# Altium integrated library TI Data Converters Analog to Digital Converter.IntLib: 2198 symbols (part 34 of 164)
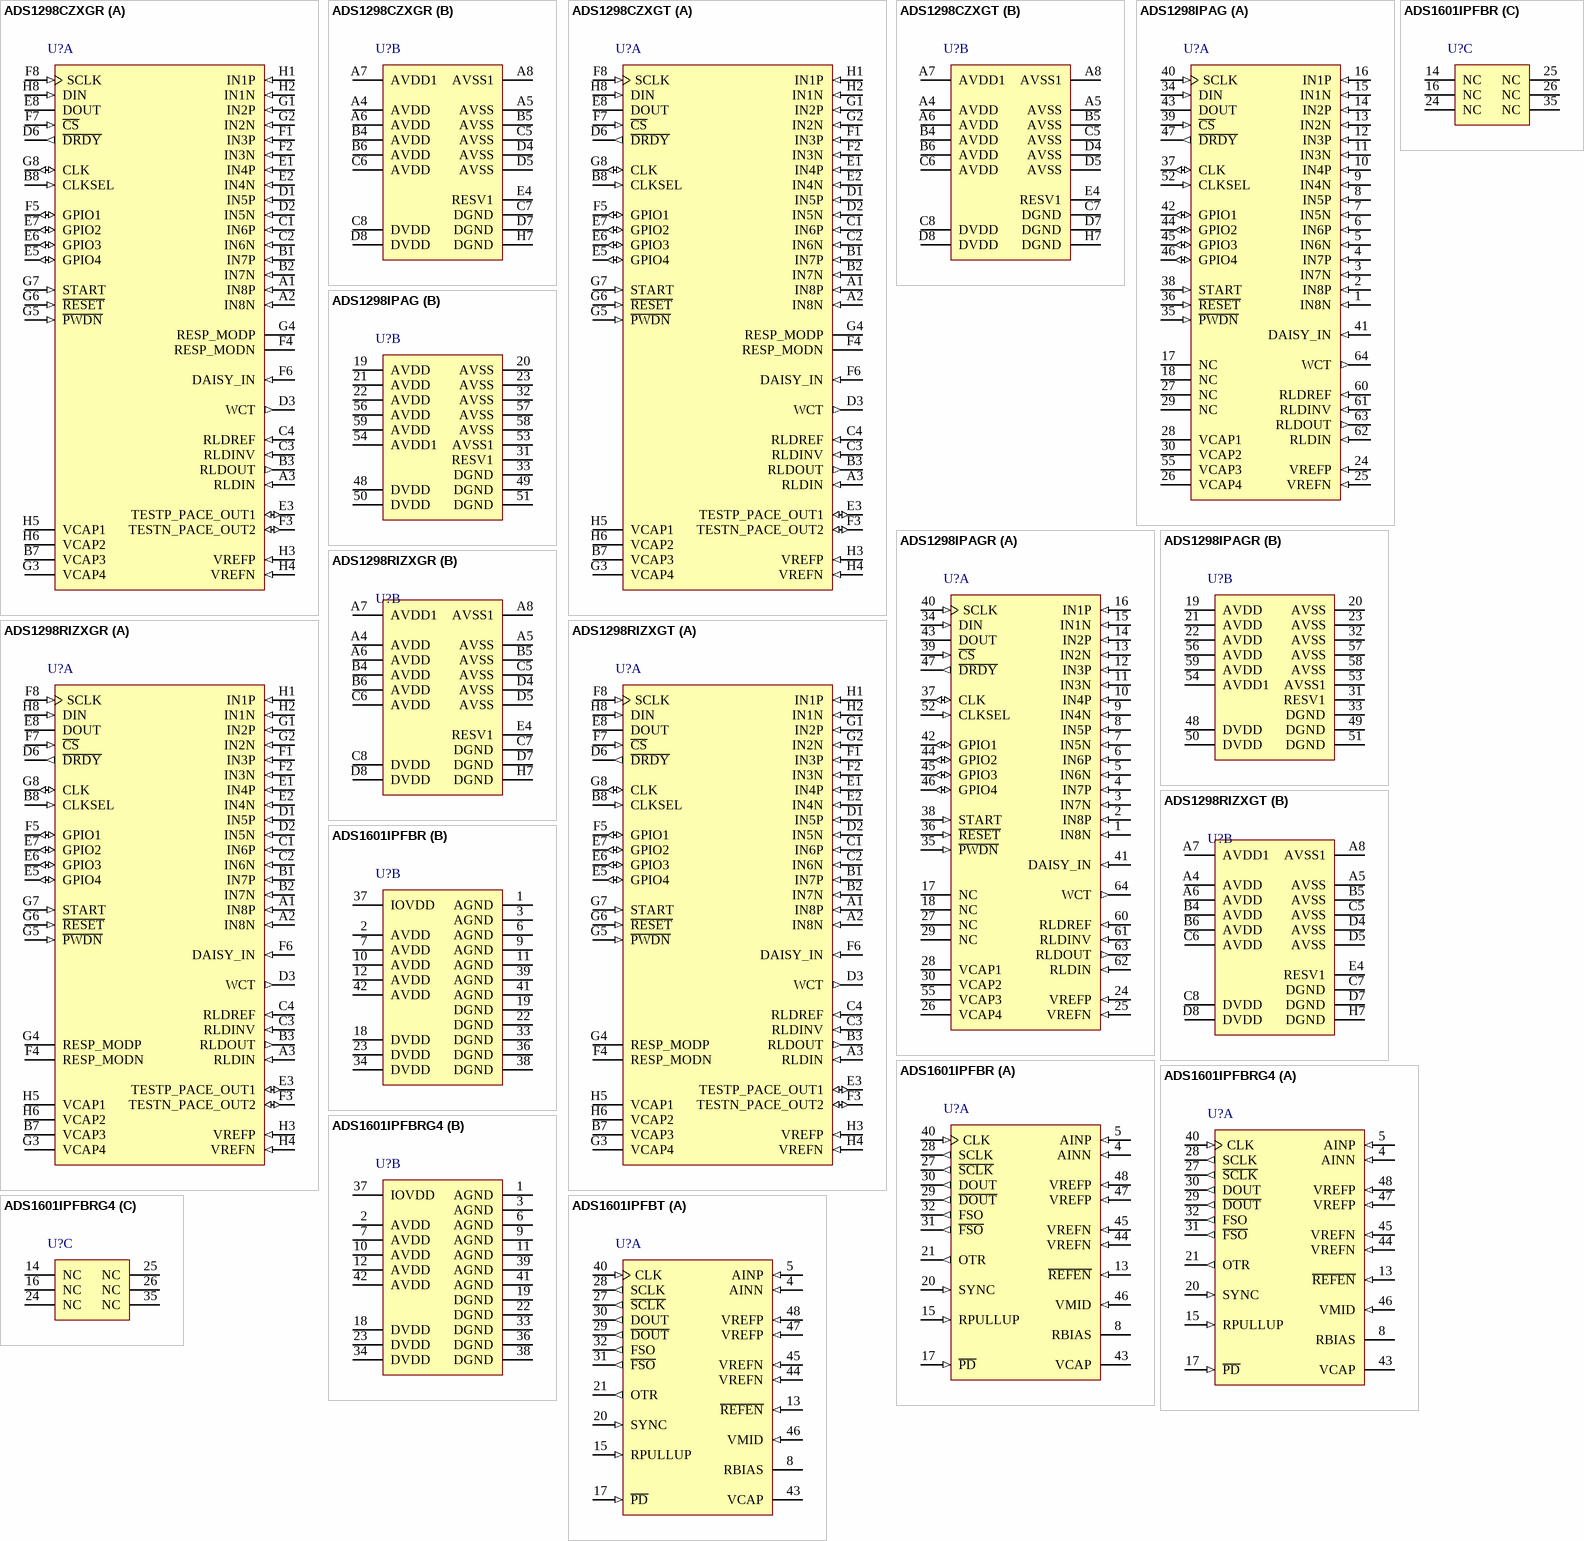
[diagram p159: symbols ADS1298CZXGR to ADS1601IPFBT]

## ADS1298RIZXGR
designator U?
8-Channel, 24-Bit ADC with Integrated Respiration Impedance and ECG Front End, -40 to 85 degC, 64-pin BGA (ZXG64), Green (RoHS & no Sb/Br); Manufacturer: Texas Instruments; PartNumber: ADS1298RIZXGR; # Input Channels: 8; Analog Voltage AV/DD(Max)(V): 5.25; Analog Voltage AV/DD(Min)(V): 2.7; Architecture: Delta-Sigma; Digital Supply(Max)(V): 3.6; Digital Supply(Min)(V): 1.65; Interface: Serial SPI; Resolution(Bits): 24; Sample Rate (max)(SPS): 32K; SNR(dB): 112; SubFamily: Precision ADC (<=10MSPS); DatasheetVersion: SBAS459I; PackageVersion: 4206838/A, 02/2005; PackageReference: ZXG64; PackageDescription: 64-Pin Plastic Ball Grid Array, Body 8 x 8 mm, Pitch 0.8 mm; Supplier 1: Digi-Key; Supplier Part Number 1: ADS828EG4-ND; Eco-Plan: Green (RoHS & no Sb/Br); Mounting Technology: Surface Mount; ComponentLink1Description: Manufacturer URL; ComponentLink1URL: http://www.ti.com/; ComponentLink2Description: Datasheet; ComponentLink2URL: http://www.ti.com/general/docs/lit/getliterature.tsp?genericPartNumber=ADS1298R&fileType=pdf; ComponentLink3Description: Package Specification; ComponentLink3URL: http://www.ti.com/litv/pdf/mpbg581
footprint TI-ZXG64 (BGA, 64-Balls, Body 8x8mm, Pitch 0.8mm)
part A pins: A1 IN8P (in) "Differential analog positive input 8 (ADS1298/8R)", A2 IN8N (in) "Differential analog negative input 8 (ADS1298/8R)", A3 RLDIN (in) "Right leg drive input to MUX", B1 IN7P (in) "Differential analog positive input 7 (ADS1298/8R)", B2 IN7N (in) "Differential analog negative input 7 (ADS1298/8R)", B3 RLDOUT (out) "Right leg drive output", B7 VCAP3 "Analog bypass capacitor; internally generated AVDD + 1.9V.", B8 CLKSEL (in) "Master clock select", C1 IN6P (in) "Differential analog positive input 6 (ADS1296/8/6R/8R)", C2 IN6N (in) "Differential analog negative input 6 (ADS1296/8/6R/8R)", C3 RLDINV (in) "Right leg drive inverting input", C4 RLDREF (in) "Right leg drive noninverting input", D1 IN5P (in) "Differential analog positive input 5 (ADS1296/8/6R/8R)", D2 IN5N (in) "Differential analog negative input 5 (ADS1296/8/6R/8R)", D3 WCT (out) "Wilson Central Terminal output", D6 ~{DRDY} (out) "Data ready; active low", E1 IN4P (in) "Differential analog positive input 4", E2 IN4N (in) "Differential analog negative input 4", E3 TESTP_PACE_OUT1 (io) "Internal test signal/single-ended buffer output based on register settings", E5 GPIO4 (io) "GPIO4 in normal mode", E6 GPIO3 (io) "GPIO3 in normal mode", E7 GPIO2 (io) "General-purpose input/output pin", E8 DOUT (hiz) "SPI data out", F1 IN3P (in) "Differential analog positive input 3", F2 IN3N (in) "Differential analog negative input 3", F3 TESTN_PACE_OUT2 (io) "Internal test signal/single-ended buffer output based on register settings", F4 RESP_MODN "ADS1294R/6R/8R: modulation clock for respiration measurement, negative side. ADS1294/6/8: leave floating.", F5 GPIO1 (io) "General purpose input/output pin", F6 DAISY_IN (in) "Daisy-chain input; if not used, short to DGND.", F7 ~{CS} (in) "SPI chip select; active low", F8 SCLK (in) "SPI clock", G1 IN2P (in) "Differential analog positive input 2", G2 IN2N (in) "Differential analog negative input 2", G3 VCAP4 "Analog bypass capacitor", G4 RESP_MODP "ADS1294R/6R/8R: modulation clock for respiration measurement, positive side. ADS1294/6/8: leave floating.", G5 ~{PWDN} (in) "Power-down; active low", G6 ~{RESET} (in) "System reset; active low", G7 START (in) "Start conversion", G8 CLK (io) "External Master clock input or internal clock output.", H1 IN1P (in) "Differential analog positive input 1", H2 IN1N (in) "Differential analog negative input 1", H3 VREFP (in) "Positive reference voltage", H4 VREFN (in) "Negative reference voltage", H5 VCAP1 "Analog bypass capacitor", H6 VCAP2 "Analog bypass capacitor", H8 DIN (in) "SPI data in"
part B pins: A4 AVDD (power) "Analog supply", A5 AVSS (power) "Analog ground", A6 AVDD (power) "Analog supply", A7 AVDD1 (power) "Analog supply for charge pump", A8 AVSS1 (power) "Analog ground for charge pump", B4 AVDD (power) "Analog supply", B5 AVSS (power) "Analog ground", B6 AVDD (power) "Analog supply", C5 AVSS (power) "Analog ground", C6 AVDD (power) "Analog supply", C7 DGND (power) "Digital ground", C8 DVDD (power) "Digital power supply", D4 AVSS (power) "Analog ground", D5 AVSS (power) "Analog ground", D7 DGND (power) "Digital ground", D8 DVDD (power) "Digital power supply", E4 RESV1 (power) "Reserved for future use; must tie to logic low (DGND).", H7 DGND (power) "Digital ground"

## ADS1298RIZXGT
designator U?
8-Channel, 24-Bit ADC with Integrated Respiration Impedance and ECG Front End, -40 to 85 degC, 64-pin BGA (ZXG64), Green (RoHS & no Sb/Br); Manufacturer: Texas Instruments; PartNumber: ADS1298RIZXGT; # Input Channels: 8; Analog Voltage AV/DD(Max)(V): 5.25; Analog Voltage AV/DD(Min)(V): 2.7; Architecture: Delta-Sigma; Digital Supply(Max)(V): 3.6; Digital Supply(Min)(V): 1.65; Interface: Serial SPI; Resolution(Bits): 24; Sample Rate (max)(SPS): 32K; SNR(dB): 112; SubFamily: Precision ADC (<=10MSPS); DatasheetVersion: SBAS459I; PackageVersion: 4206838/A, 02/2005; PackageReference: ZXG64; PackageDescription: 64-Pin Plastic Ball Grid Array, Body 8 x 8 mm, Pitch 0.8 mm; Supplier 1: Digi-Key; Supplier Part Number 1: ADS826E-ND; Eco-Plan: Green (RoHS & no Sb/Br); Mounting Technology: Surface Mount; ComponentLink1Description: Manufacturer URL; ComponentLink1URL: http://www.ti.com/; ComponentLink2Description: Datasheet; ComponentLink2URL: http://www.ti.com/general/docs/lit/getliterature.tsp?genericPartNumber=ADS1298R&fileType=pdf; ComponentLink3Description: Package Specification; ComponentLink3URL: http://www.ti.com/litv/pdf/mpbg581
footprint TI-ZXG64 (BGA, 64-Balls, Body 8x8mm, Pitch 0.8mm)
part A pins: A1 IN8P (in) "Differential analog positive input 8 (ADS1298/8R)", A2 IN8N (in) "Differential analog negative input 8 (ADS1298/8R)", A3 RLDIN (in) "Right leg drive input to MUX", B1 IN7P (in) "Differential analog positive input 7 (ADS1298/8R)", B2 IN7N (in) "Differential analog negative input 7 (ADS1298/8R)", B3 RLDOUT (out) "Right leg drive output", B7 VCAP3 "Analog bypass capacitor; internally generated AVDD + 1.9V.", B8 CLKSEL (in) "Master clock select", C1 IN6P (in) "Differential analog positive input 6 (ADS1296/8/6R/8R)", C2 IN6N (in) "Differential analog negative input 6 (ADS1296/8/6R/8R)", C3 RLDINV (in) "Right leg drive inverting input", C4 RLDREF (in) "Right leg drive noninverting input", D1 IN5P (in) "Differential analog positive input 5 (ADS1296/8/6R/8R)", D2 IN5N (in) "Differential analog negative input 5 (ADS1296/8/6R/8R)", D3 WCT (out) "Wilson Central Terminal output", D6 ~{DRDY} (out) "Data ready; active low", E1 IN4P (in) "Differential analog positive input 4", E2 IN4N (in) "Differential analog negative input 4", E3 TESTP_PACE_OUT1 (io) "Internal test signal/single-ended buffer output based on register settings", E5 GPIO4 (io) "GPIO4 in normal mode", E6 GPIO3 (io) "GPIO3 in normal mode", E7 GPIO2 (io) "General-purpose input/output pin", E8 DOUT (hiz) "SPI data out", F1 IN3P (in) "Differential analog positive input 3", F2 IN3N (in) "Differential analog negative input 3", F3 TESTN_PACE_OUT2 (io) "Internal test signal/single-ended buffer output based on register settings", F4 RESP_MODN "ADS1294R/6R/8R: modulation clock for respiration measurement, negative side. ADS1294/6/8: leave floating.", F5 GPIO1 (io) "General purpose input/output pin", F6 DAISY_IN (in) "Daisy-chain input; if not used, short to DGND.", F7 ~{CS} (in) "SPI chip select; active low", F8 SCLK (in) "SPI clock", G1 IN2P (in) "Differential analog positive input 2", G2 IN2N (in) "Differential analog negative input 2", G3 VCAP4 "Analog bypass capacitor", G4 RESP_MODP "ADS1294R/6R/8R: modulation clock for respiration measurement, positive side. ADS1294/6/8: leave floating.", G5 ~{PWDN} (in) "Power-down; active low", G6 ~{RESET} (in) "System reset; active low", G7 START (in) "Start conversion", G8 CLK (io) "External Master clock input or internal clock output.", H1 IN1P (in) "Differential analog positive input 1", H2 IN1N (in) "Differential analog negative input 1", H3 VREFP (in) "Positive reference voltage", H4 VREFN (in) "Negative reference voltage", H5 VCAP1 "Analog bypass capacitor", H6 VCAP2 "Analog bypass capacitor", H8 DIN (in) "SPI data in"
part B pins: A4 AVDD (power) "Analog supply", A5 AVSS (power) "Analog ground", A6 AVDD (power) "Analog supply", A7 AVDD1 (power) "Analog supply for charge pump", A8 AVSS1 (power) "Analog ground for charge pump", B4 AVDD (power) "Analog supply", B5 AVSS (power) "Analog ground", B6 AVDD (power) "Analog supply", C5 AVSS (power) "Analog ground", C6 AVDD (power) "Analog supply", C7 DGND (power) "Digital ground", C8 DVDD (power) "Digital power supply", D4 AVSS (power) "Analog ground", D5 AVSS (power) "Analog ground", D7 DGND (power) "Digital ground", D8 DVDD (power) "Digital power supply", E4 RESV1 (power) "Reserved for future use; must tie to logic low (DGND).", H7 DGND (power) "Digital ground"

## ADS1601IPFBR
designator U?
16-Bit, 1.25 MSPS ADC, -40 to 85 degC, 48-pin QFP (PFB48), Green (RoHS & no Sb/Br); Manufacturer: Texas Instruments; PartNumber: ADS1601IPFBR; # Input Channels: 1; Analog Voltage AV/DD(Max)(V): 5.25; Analog Voltage AV/DD(Min)(V): 4.75; Architecture: Delta-Sigma; Digital Supply(Min)(V): 2.7; INL(Max)(+/-LSB): 0.75; Interface: Serial SPI; Resolution(Bits): 16; Sample Rate (max)(SPS): 1.25M; SFDR(dB): 120; SINAD(dB): 91; SubFamily: Precision ADC (<=10MSPS); DatasheetVersion: SBAS322D; PackageVersion: 4073176/B, 10/1996; PackageReference: PFB48; PackageDescription: 48-Pin Plastic Flat Pack, Body 7 x 7 mm, Pitch 0.5 mm; Supplier 1: Digi-Key; Supplier Part Number 1: ADS826E/1K-ND; Digital Supply(Max)(V): 5.25; Eco-Plan: Green (RoHS & no Sb/Br); SNR(dB): 91; Mounting Technology: Surface Mount; Code_JEDEC: MS-026; ComponentLink1Description: Manufacturer URL; ComponentLink1URL: http://www.ti.com/; ComponentLink2Description: Datasheet; ComponentLink2URL: http://www.ti.com/general/docs/lit/getliterature.tsp?genericPartNumber=ADS1601&fileType=pdf; ComponentLink3Description: Package Specification; ComponentLink3URL: http://www.ti.com/lit/ml/mtqf019a/mtqf019a.pdf
footprint TI-PFB48_N (QFP, 48-Leads, Body 7x7mm, Pitch 0.5mm, IPC Medium Density)
footprint TI-PFB48_L (QFP, 48-Leads, Body 7x7mm, Pitch 0.5mm, IPC High Density)
footprint TI-PFB48_M (QFP, 48-Leads, Body 7x7mm, Pitch 0.5mm, IPC Low Density)
part A pins: 4 AINN (in) "Negative analog input", 5 AINP (in) "Positive analog input", 8 RBIAS "Terminal for external analog bias setting resistor.", 13 ~{REFEN} (in) "Internal reference enable. Internal pull-down resistor of 170kohm to DGND.", 15 RPULLUP (in) "Pull-up to DVDD with 10kohm resistor (see Figure 53).", 17 ~{PD} (in) "Power-down all circuitry. Internal pull-up resistor of 170kohm to DGND.", 20 SYNC (in) "Synchronization control input", 21 OTR (out) "Indicates analog input signal is out of range.", 27 ~{SCLK} (out) "Serial clock output, complementary signal.", 28 SCLK (out) "Serial clock output", 29 ~{DOUT} (out) "Data output, complementary signal.", 30 DOUT (out) "Data output", 31 ~{FSO} (out) "Frame synchronization output, complementary signal.", 32 FSO (out) "Frame synchronization output", 40 CLK (in) "Clock input", 43 VCAP "Terminal for external bypass capacitor connection to internal bias voltage.", 44 VREFN (in) "Negative reference voltage", 45 VREFN (in) "Negative reference voltage", 46 VMID (in) "Midpoint voltage", 47 VREFP (in) "Positive reference voltage", 48 VREFP (in) "Positive reference voltage"
part B pins: 1 AGND (power) "Analog ground", 2 AVDD (power) "Analog supply", 3 AGND (power) "Analog ground", 6 AGND (power) "Analog ground", 7 AVDD (power) "Analog supply", 9 AGND (power) "Analog ground", 10 AVDD (power) "Analog supply", 11 AGND (power) "Analog ground", 12 AVDD (power) "Analog supply", 18 DVDD (power) "Digital supply", 19 DGND (power) "Digital ground", 22 DGND (power) "Digital ground", 23 DVDD (power) "Digital supply", 33 DGND (power) "Digital ground", 34 DVDD (power) "Digital supply", 36 DGND (power) "Digital ground", 37 IOVDD (power) "Digital I/O supply", 38 DGND (power) "Digital ground", 39 AGND (power) "Analog ground", 41 AGND (power) "Analog ground", 42 AVDD (power) "Analog supply"
part C pins: 14 NC "These terminals must be left unconnected.", 16 NC "These terminals must be left unconnected.", 24 NC "These terminals must be left unconnected.", 25 NC "These terminals must be left unconnected.", 26 NC "These terminals must be left unconnected.", 35 NC "These terminals must be left unconnected."

## ADS1601IPFBRG4
designator U?
16-Bit, 1.25 MSPS ADC, -40 to 85 degC, 48-pin QFP (PFB48), Green (RoHS & no Sb/Br); Manufacturer: Texas Instruments; PartNumber: ADS1601IPFBRG4; # Input Channels: 1; Analog Voltage AV/DD(Max)(V): 5.25; Analog Voltage AV/DD(Min)(V): 4.75; Architecture: Delta-Sigma; Digital Supply(Min)(V): 2.7; INL(Max)(+/-LSB): 0.75; Interface: Serial SPI; Resolution(Bits): 16; Sample Rate (max)(SPS): 1.25M; SFDR(dB): 120; SINAD(dB): 91; SubFamily: Precision ADC (<=10MSPS); DatasheetVersion: SBAS322D; PackageVersion: 4073176/B, 10/1996; PackageReference: PFB48; PackageDescription: 48-Pin Plastic Flat Pack, Body 7 x 7 mm, Pitch 0.5 mm; Supplier 1: Digi-Key; Supplier Part Number 1: ADS826E/1KG4-ND; Digital Supply(Max)(V): 5.25; Eco-Plan: Green (RoHS & no Sb/Br); SNR(dB): 91; Mounting Technology: Surface Mount; Code_JEDEC: MS-026; ComponentLink1Description: Manufacturer URL; ComponentLink1URL: http://www.ti.com/; ComponentLink2Description: Datasheet; ComponentLink2URL: http://www.ti.com/general/docs/lit/getliterature.tsp?genericPartNumber=ADS1601&fileType=pdf; ComponentLink3Description: Package Specification; ComponentLink3URL: http://www.ti.com/lit/ml/mtqf019a/mtqf019a.pdf
footprint TI-PFB48_N (QFP, 48-Leads, Body 7x7mm, Pitch 0.5mm, IPC Medium Density)
footprint TI-PFB48_L (QFP, 48-Leads, Body 7x7mm, Pitch 0.5mm, IPC High Density)
footprint TI-PFB48_M (QFP, 48-Leads, Body 7x7mm, Pitch 0.5mm, IPC Low Density)
part A pins: 4 AINN (in) "Negative analog input", 5 AINP (in) "Positive analog input", 8 RBIAS "Terminal for external analog bias setting resistor.", 13 ~{REFEN} (in) "Internal reference enable. Internal pull-down resistor of 170kohm to DGND.", 15 RPULLUP (in) "Pull-up to DVDD with 10kohm resistor (see Figure 53).", 17 ~{PD} (in) "Power-down all circuitry. Internal pull-up resistor of 170kohm to DGND.", 20 SYNC (in) "Synchronization control input", 21 OTR (out) "Indicates analog input signal is out of range.", 27 ~{SCLK} (out) "Serial clock output, complementary signal.", 28 SCLK (out) "Serial clock output", 29 ~{DOUT} (out) "Data output, complementary signal.", 30 DOUT (out) "Data output", 31 ~{FSO} (out) "Frame synchronization output, complementary signal.", 32 FSO (out) "Frame synchronization output", 40 CLK (in) "Clock input", 43 VCAP "Terminal for external bypass capacitor connection to internal bias voltage.", 44 VREFN (in) "Negative reference voltage", 45 VREFN (in) "Negative reference voltage", 46 VMID (in) "Midpoint voltage", 47 VREFP (in) "Positive reference voltage", 48 VREFP (in) "Positive reference voltage"
part B pins: 1 AGND (power) "Analog ground", 2 AVDD (power) "Analog supply", 3 AGND (power) "Analog ground", 6 AGND (power) "Analog ground", 7 AVDD (power) "Analog supply", 9 AGND (power) "Analog ground", 10 AVDD (power) "Analog supply", 11 AGND (power) "Analog ground", 12 AVDD (power) "Analog supply", 18 DVDD (power) "Digital supply", 19 DGND (power) "Digital ground", 22 DGND (power) "Digital ground", 23 DVDD (power) "Digital supply", 33 DGND (power) "Digital ground", 34 DVDD (power) "Digital supply", 36 DGND (power) "Digital ground", 37 IOVDD (power) "Digital I/O supply", 38 DGND (power) "Digital ground", 39 AGND (power) "Analog ground", 41 AGND (power) "Analog ground", 42 AVDD (power) "Analog supply"
part C pins: 14 NC "These terminals must be left unconnected.", 16 NC "These terminals must be left unconnected.", 24 NC "These terminals must be left unconnected.", 25 NC "These terminals must be left unconnected.", 26 NC "These terminals must be left unconnected.", 35 NC "These terminals must be left unconnected."

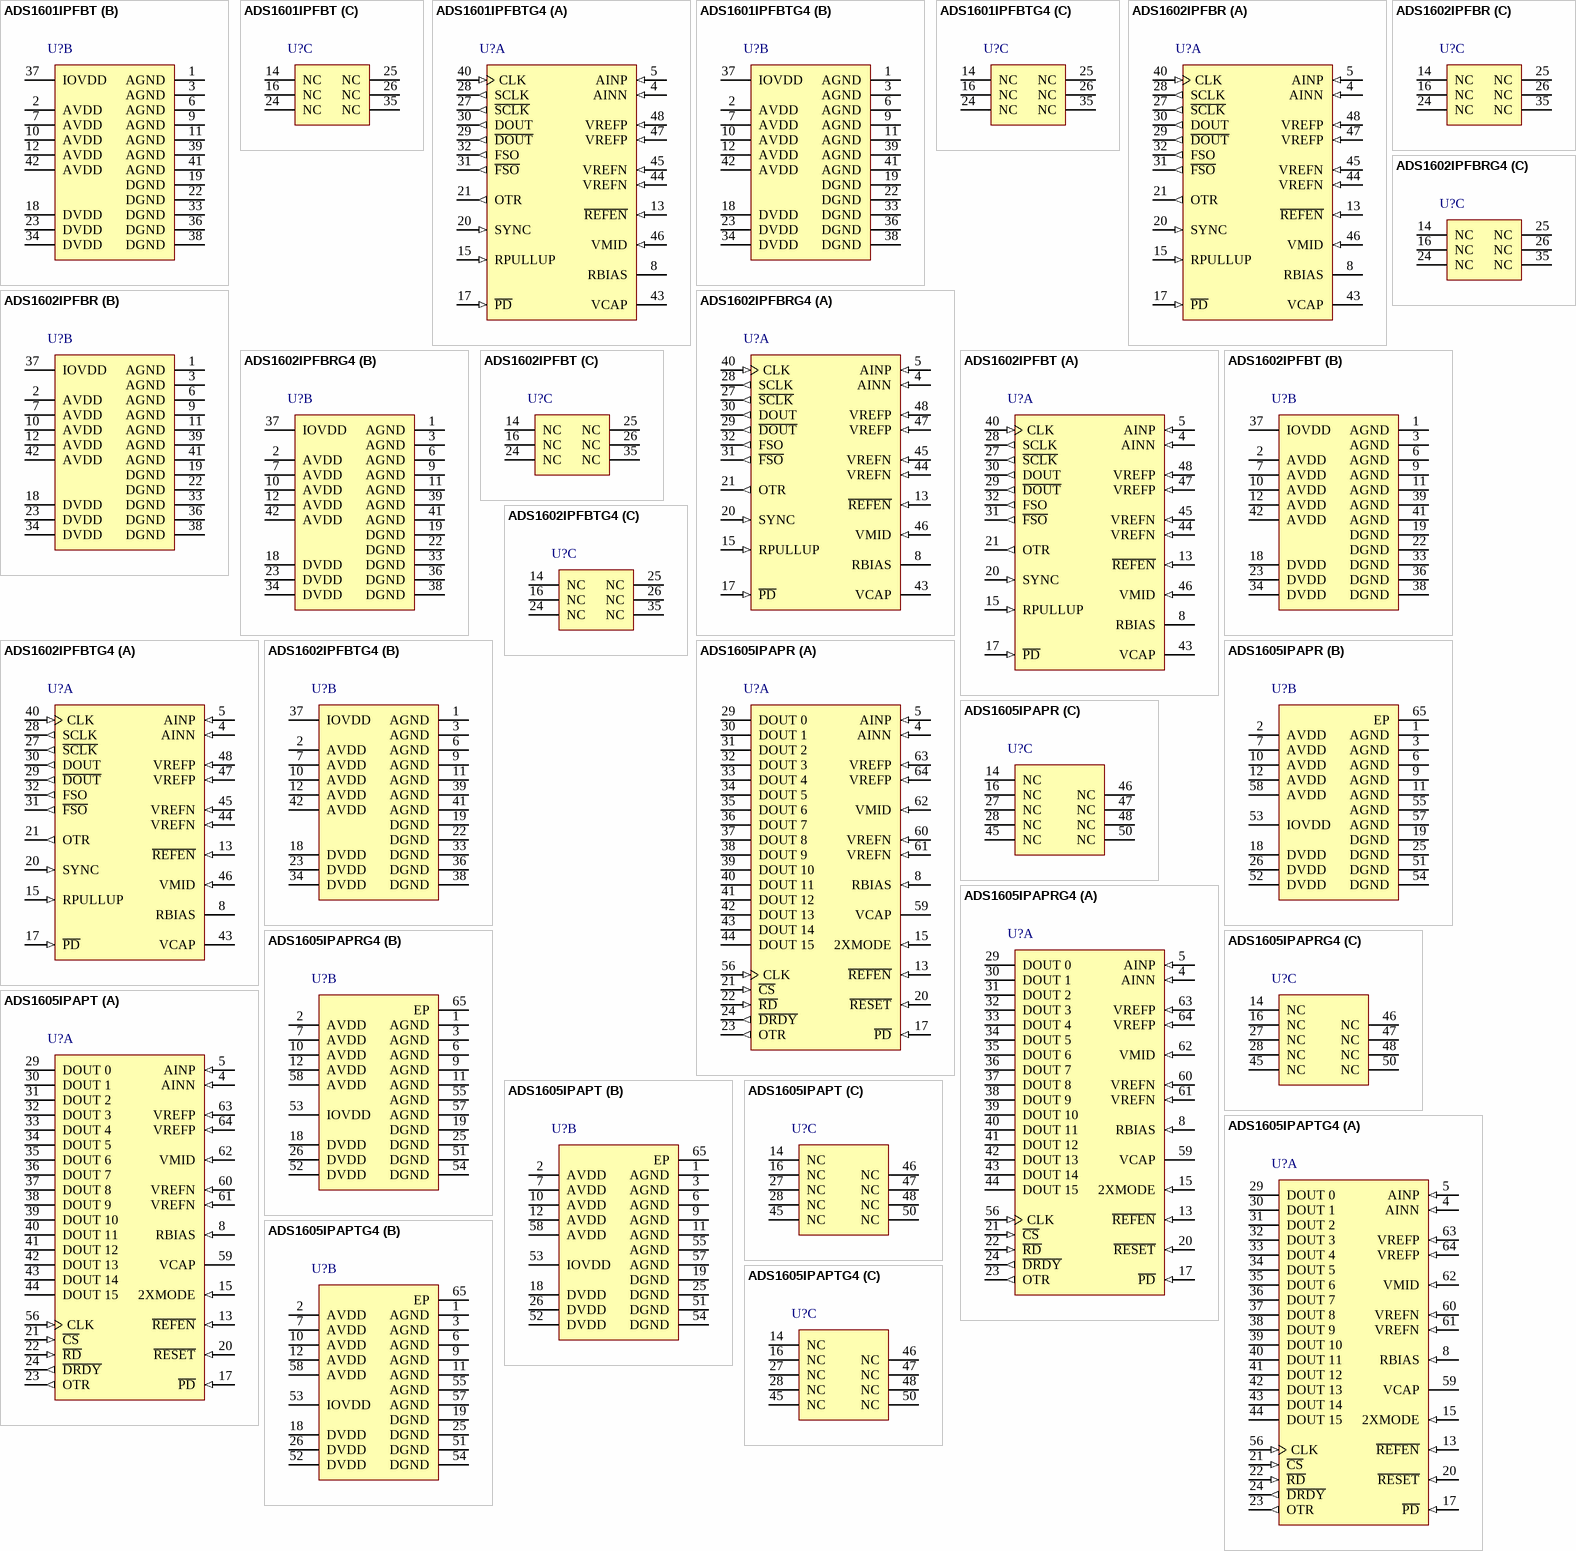
[diagram p29: symbols ADS1601IPFBT to ADS1605IPAPTG4]

## ADS1601IPFBT
designator U?
16-Bit, 1.25 MSPS ADC, -40 to 85 degC, 48-pin QFP (PFB48), Green (RoHS & no Sb/Br); Manufacturer: Texas Instruments; PartNumber: ADS1601IPFBT; # Input Channels: 1; Analog Voltage AV/DD(Max)(V): 5.25; Analog Voltage AV/DD(Min)(V): 4.75; Architecture: Delta-Sigma; Digital Supply(Min)(V): 2.7; INL(Max)(+/-LSB): 0.75; Interface: Serial SPI; Resolution(Bits): 16; Sample Rate (max)(SPS): 1.25M; SFDR(dB): 120; SINAD(dB): 91; SubFamily: Precision ADC (<=10MSPS); DatasheetVersion: SBAS322D; PackageVersion: 4073176/B, 10/1996; PackageReference: PFB48; PackageDescription: 48-Pin Plastic Flat Pack, Body 7 x 7 mm, Pitch 0.5 mm; Supplier 1: Digi-Key; Supplier Part Number 1: ADS826EG4-ND; Digital Supply(Max)(V): 5.25; Eco-Plan: Green (RoHS & no Sb/Br); SNR(dB): 91; Mounting Technology: Surface Mount; Code_JEDEC: MS-026; ComponentLink1Description: Manufacturer URL; ComponentLink1URL: http://www.ti.com/; ComponentLink2Description: Datasheet; ComponentLink2URL: http://www.ti.com/general/docs/lit/getliterature.tsp?genericPartNumber=ADS1601&fileType=pdf; ComponentLink3Description: Package Specification; ComponentLink3URL: http://www.ti.com/lit/ml/mtqf019a/mtqf019a.pdf
footprint TI-PFB48_N (QFP, 48-Leads, Body 7x7mm, Pitch 0.5mm, IPC Medium Density)
footprint TI-PFB48_L (QFP, 48-Leads, Body 7x7mm, Pitch 0.5mm, IPC High Density)
footprint TI-PFB48_M (QFP, 48-Leads, Body 7x7mm, Pitch 0.5mm, IPC Low Density)
part A pins: 4 AINN (in) "Negative analog input", 5 AINP (in) "Positive analog input", 8 RBIAS "Terminal for external analog bias setting resistor.", 13 ~{REFEN} (in) "Internal reference enable. Internal pull-down resistor of 170kohm to DGND.", 15 RPULLUP (in) "Pull-up to DVDD with 10kohm resistor (see Figure 53).", 17 ~{PD} (in) "Power-down all circuitry. Internal pull-up resistor of 170kohm to DGND.", 20 SYNC (in) "Synchronization control input", 21 OTR (out) "Indicates analog input signal is out of range.", 27 ~{SCLK} (out) "Serial clock output, complementary signal.", 28 SCLK (out) "Serial clock output", 29 ~{DOUT} (out) "Data output, complementary signal.", 30 DOUT (out) "Data output", 31 ~{FSO} (out) "Frame synchronization output, complementary signal.", 32 FSO (out) "Frame synchronization output", 40 CLK (in) "Clock input", 43 VCAP "Terminal for external bypass capacitor connection to internal bias voltage.", 44 VREFN (in) "Negative reference voltage", 45 VREFN (in) "Negative reference voltage", 46 VMID (in) "Midpoint voltage", 47 VREFP (in) "Positive reference voltage", 48 VREFP (in) "Positive reference voltage"
part B pins: 1 AGND (power) "Analog ground", 2 AVDD (power) "Analog supply", 3 AGND (power) "Analog ground", 6 AGND (power) "Analog ground", 7 AVDD (power) "Analog supply", 9 AGND (power) "Analog ground", 10 AVDD (power) "Analog supply", 11 AGND (power) "Analog ground", 12 AVDD (power) "Analog supply", 18 DVDD (power) "Digital supply", 19 DGND (power) "Digital ground", 22 DGND (power) "Digital ground", 23 DVDD (power) "Digital supply", 33 DGND (power) "Digital ground", 34 DVDD (power) "Digital supply", 36 DGND (power) "Digital ground", 37 IOVDD (power) "Digital I/O supply", 38 DGND (power) "Digital ground", 39 AGND (power) "Analog ground", 41 AGND (power) "Analog ground", 42 AVDD (power) "Analog supply"
part C pins: 14 NC "These terminals must be left unconnected.", 16 NC "These terminals must be left unconnected.", 24 NC "These terminals must be left unconnected.", 25 NC "These terminals must be left unconnected.", 26 NC "These terminals must be left unconnected.", 35 NC "These terminals must be left unconnected."

## ADS1601IPFBTG4
designator U?
16-Bit, 1.25 MSPS ADC, -40 to 85 degC, 48-pin QFP (PFB48), Green (RoHS & no Sb/Br); Manufacturer: Texas Instruments; PartNumber: ADS1601IPFBTG4; # Input Channels: 1; Analog Voltage AV/DD(Max)(V): 5.25; Analog Voltage AV/DD(Min)(V): 4.75; Architecture: Delta-Sigma; Digital Supply(Min)(V): 2.7; INL(Max)(+/-LSB): 0.75; Interface: Serial SPI; Resolution(Bits): 16; Sample Rate (max)(SPS): 1.25M; SFDR(dB): 120; SINAD(dB): 91; SubFamily: Precision ADC (<=10MSPS); DatasheetVersion: SBAS322D; PackageVersion: 4073176/B, 10/1996; PackageReference: PFB48; PackageDescription: 48-Pin Plastic Flat Pack, Body 7 x 7 mm, Pitch 0.5 mm; Supplier 1: Digi-Key; Supplier Part Number 1: ADS7870EA-ND; Digital Supply(Max)(V): 5.25; Eco-Plan: Green (RoHS & no Sb/Br); SNR(dB): 91; Mounting Technology: Surface Mount; Code_JEDEC: MS-026; ComponentLink1Description: Manufacturer URL; ComponentLink1URL: http://www.ti.com/; ComponentLink2Description: Datasheet; ComponentLink2URL: http://www.ti.com/general/docs/lit/getliterature.tsp?genericPartNumber=ADS1601&fileType=pdf; ComponentLink3Description: Package Specification; ComponentLink3URL: http://www.ti.com/lit/ml/mtqf019a/mtqf019a.pdf
footprint TI-PFB48_N (QFP, 48-Leads, Body 7x7mm, Pitch 0.5mm, IPC Medium Density)
footprint TI-PFB48_L (QFP, 48-Leads, Body 7x7mm, Pitch 0.5mm, IPC High Density)
footprint TI-PFB48_M (QFP, 48-Leads, Body 7x7mm, Pitch 0.5mm, IPC Low Density)
part A pins: 4 AINN (in) "Negative analog input", 5 AINP (in) "Positive analog input", 8 RBIAS "Terminal for external analog bias setting resistor.", 13 ~{REFEN} (in) "Internal reference enable. Internal pull-down resistor of 170kohm to DGND.", 15 RPULLUP (in) "Pull-up to DVDD with 10kohm resistor (see Figure 53).", 17 ~{PD} (in) "Power-down all circuitry. Internal pull-up resistor of 170kohm to DGND.", 20 SYNC (in) "Synchronization control input", 21 OTR (out) "Indicates analog input signal is out of range.", 27 ~{SCLK} (out) "Serial clock output, complementary signal.", 28 SCLK (out) "Serial clock output", 29 ~{DOUT} (out) "Data output, complementary signal.", 30 DOUT (out) "Data output", 31 ~{FSO} (out) "Frame synchronization output, complementary signal.", 32 FSO (out) "Frame synchronization output", 40 CLK (in) "Clock input", 43 VCAP "Terminal for external bypass capacitor connection to internal bias voltage.", 44 VREFN (in) "Negative reference voltage", 45 VREFN (in) "Negative reference voltage", 46 VMID (in) "Midpoint voltage", 47 VREFP (in) "Positive reference voltage", 48 VREFP (in) "Positive reference voltage"
part B pins: 1 AGND (power) "Analog ground", 2 AVDD (power) "Analog supply", 3 AGND (power) "Analog ground", 6 AGND (power) "Analog ground", 7 AVDD (power) "Analog supply", 9 AGND (power) "Analog ground", 10 AVDD (power) "Analog supply", 11 AGND (power) "Analog ground", 12 AVDD (power) "Analog supply", 18 DVDD (power) "Digital supply", 19 DGND (power) "Digital ground", 22 DGND (power) "Digital ground", 23 DVDD (power) "Digital supply", 33 DGND (power) "Digital ground", 34 DVDD (power) "Digital supply", 36 DGND (power) "Digital ground", 37 IOVDD (power) "Digital I/O supply", 38 DGND (power) "Digital ground", 39 AGND (power) "Analog ground", 41 AGND (power) "Analog ground", 42 AVDD (power) "Analog supply"
part C pins: 14 NC "These terminals must be left unconnected.", 16 NC "These terminals must be left unconnected.", 24 NC "These terminals must be left unconnected.", 25 NC "These terminals must be left unconnected.", 26 NC "These terminals must be left unconnected.", 35 NC "These terminals must be left unconnected."

## ADS1602IPFBR
designator U?
16-Bit, 2.5 MSPS ADC, -40 to 85 degC, 48-pin QFP (PFB48), Green (RoHS & no Sb/Br); Manufacturer: Texas Instruments; PartNumber: ADS1602IPFBR; # Input Channels: 1; Analog Voltage AV/DD(Max)(V): 5.25; Analog Voltage AV/DD(Min)(V): 4.75; Architecture: Delta-Sigma; Digital Supply(Min)(V): 2.7; Interface: Serial SPI; Resolution(Bits): 16; Sample Rate (max)(SPS): 2.5M; SFDR(dB): 120; SINAD(dB): 91; SubFamily: Precision ADC (<=10MSPS); DatasheetVersion: SBAS341E; PackageVersion: 4073176/B, 10/1996; PackageReference: PFB48; PackageDescription: 48-Pin Plastic Flat Pack, Body 7 x 7 mm, Pitch 0.5 mm; Supplier 1: Digi-Key; Supplier Part Number 1: ADS7870EA/1K-ND; Digital Supply(Max)(V): 5.25; Eco-Plan: Green (RoHS & no Sb/Br); SNR(dB): 91; Mounting Technology: Surface Mount; Code_JEDEC: MS-026; ComponentLink1Description: Manufacturer URL; ComponentLink1URL: http://www.ti.com/; ComponentLink2Description: Datasheet; ComponentLink2URL: http://www.ti.com/general/docs/lit/getliterature.tsp?genericPartNumber=ADS1602&fileType=pdf; ComponentLink3Description: Package Specification; ComponentLink3URL: http://www.ti.com/lit/ml/mtqf019a/mtqf019a.pdf
footprint TI-PFB48_N (QFP, 48-Leads, Body 7x7mm, Pitch 0.5mm, IPC Medium Density)
footprint TI-PFB48_L (QFP, 48-Leads, Body 7x7mm, Pitch 0.5mm, IPC High Density)
footprint TI-PFB48_M (QFP, 48-Leads, Body 7x7mm, Pitch 0.5mm, IPC Low Density)
part A pins: 4 AINN (in) "Negative analog input", 5 AINP (in) "Positive analog input", 8 RBIAS "Terminal for external analog bias setting resistor.", 13 ~{REFEN} (in) "Internal reference enable. Internal pull-down resistor of 170kohm to DGND.", 15 RPULLUP (in) "Pull-up to DVDD with 10kohm resistor (see Figure 53).", 17 ~{PD} (in) "Power-down all circuitry. Internal pull-up resistor of 170kohm to DGND.", 20 SYNC (in) "Synchronization control input", 21 OTR (out) "Indicates analog input signal is out of range.", 27 ~{SCLK} (out) "Serial clock output, complementary signal.", 28 SCLK (out) "Serial clock output", 29 ~{DOUT} (out) "Data output, complementary signal.", 30 DOUT (out) "Data output", 31 ~{FSO} (out) "Frame synchronization output, complementary signal.", 32 FSO (out) "Frame synchronization output", 40 CLK (in) "Clock input", 43 VCAP "Terminal for external bypass capacitor connection to internal bias voltage.", 44 VREFN (in) "Negative reference voltage", 45 VREFN (in) "Negative reference voltage", 46 VMID (in) "Midpoint voltage", 47 VREFP (in) "Positive reference voltage", 48 VREFP (in) "Positive reference voltage"
part B pins: 1 AGND (power) "Analog ground", 2 AVDD (power) "Analog supply", 3 AGND (power) "Analog ground", 6 AGND (power) "Analog ground", 7 AVDD (power) "Analog supply", 9 AGND (power) "Analog ground", 10 AVDD (power) "Analog supply", 11 AGND (power) "Analog ground", 12 AVDD (power) "Analog supply", 18 DVDD (power) "Digital supply", 19 DGND (power) "Digital ground", 22 DGND (power) "Digital ground", 23 DVDD (power) "Digital supply", 33 DGND (power) "Digital ground", 34 DVDD (power) "Digital supply", 36 DGND (power) "Digital ground", 37 IOVDD (power) "Digital I/O supply", 38 DGND (power) "Digital ground", 39 AGND (power) "Analog ground", 41 AGND (power) "Analog ground", 42 AVDD (power) "Analog supply"
part C pins: 14 NC "These terminals must be left unconnected.", 16 NC "These terminals must be left unconnected.", 24 NC "These terminals must be left unconnected.", 25 NC "These terminals must be left unconnected.", 26 NC "These terminals must be left unconnected.", 35 NC "These terminals must be left unconnected."

## ADS1602IPFBRG4
designator U?
16-Bit, 2.5 MSPS ADC, -40 to 85 degC, 48-pin QFP (PFB48), Green (RoHS & no Sb/Br); Manufacturer: Texas Instruments; PartNumber: ADS1602IPFBRG4; # Input Channels: 1; Analog Voltage AV/DD(Max)(V): 5.25; Analog Voltage AV/DD(Min)(V): 4.75; Architecture: Delta-Sigma; Digital Supply(Min)(V): 2.7; Interface: Serial SPI; Resolution(Bits): 16; Sample Rate (max)(SPS): 2.5M; SFDR(dB): 120; SINAD(dB): 91; SubFamily: Precision ADC (<=10MSPS); DatasheetVersion: SBAS341E; PackageVersion: 4073176/B, 10/1996; PackageReference: PFB48; PackageDescription: 48-Pin Plastic Flat Pack, Body 7 x 7 mm, Pitch 0.5 mm; Supplier 1: Digi-Key; Supplier Part Number 1: ADS7870EA/1KG4-ND; Digital Supply(Max)(V): 5.25; Eco-Plan: Green (RoHS & no Sb/Br); SNR(dB): 91; Mounting Technology: Surface Mount; Code_JEDEC: MS-026; ComponentLink1Description: Manufacturer URL; ComponentLink1URL: http://www.ti.com/; ComponentLink2Description: Datasheet; ComponentLink2URL: http://www.ti.com/general/docs/lit/getliterature.tsp?genericPartNumber=ADS1602&fileType=pdf; ComponentLink3Description: Package Specification; ComponentLink3URL: http://www.ti.com/lit/ml/mtqf019a/mtqf019a.pdf
footprint TI-PFB48_N (QFP, 48-Leads, Body 7x7mm, Pitch 0.5mm, IPC Medium Density)
footprint TI-PFB48_L (QFP, 48-Leads, Body 7x7mm, Pitch 0.5mm, IPC High Density)
footprint TI-PFB48_M (QFP, 48-Leads, Body 7x7mm, Pitch 0.5mm, IPC Low Density)
part A pins: 4 AINN (in) "Negative analog input", 5 AINP (in) "Positive analog input", 8 RBIAS "Terminal for external analog bias setting resistor.", 13 ~{REFEN} (in) "Internal reference enable. Internal pull-down resistor of 170kohm to DGND.", 15 RPULLUP (in) "Pull-up to DVDD with 10kohm resistor (see Figure 53).", 17 ~{PD} (in) "Power-down all circuitry. Internal pull-up resistor of 170kohm to DGND.", 20 SYNC (in) "Synchronization control input", 21 OTR (out) "Indicates analog input signal is out of range.", 27 ~{SCLK} (out) "Serial clock output, complementary signal.", 28 SCLK (out) "Serial clock output", 29 ~{DOUT} (out) "Data output, complementary signal.", 30 DOUT (out) "Data output", 31 ~{FSO} (out) "Frame synchronization output, complementary signal.", 32 FSO (out) "Frame synchronization output", 40 CLK (in) "Clock input", 43 VCAP "Terminal for external bypass capacitor connection to internal bias voltage.", 44 VREFN (in) "Negative reference voltage", 45 VREFN (in) "Negative reference voltage", 46 VMID (in) "Midpoint voltage", 47 VREFP (in) "Positive reference voltage", 48 VREFP (in) "Positive reference voltage"
part B pins: 1 AGND (power) "Analog ground", 2 AVDD (power) "Analog supply", 3 AGND (power) "Analog ground", 6 AGND (power) "Analog ground", 7 AVDD (power) "Analog supply", 9 AGND (power) "Analog ground", 10 AVDD (power) "Analog supply", 11 AGND (power) "Analog ground", 12 AVDD (power) "Analog supply", 18 DVDD (power) "Digital supply", 19 DGND (power) "Digital ground", 22 DGND (power) "Digital ground", 23 DVDD (power) "Digital supply", 33 DGND (power) "Digital ground", 34 DVDD (power) "Digital supply", 36 DGND (power) "Digital ground", 37 IOVDD (power) "Digital I/O supply", 38 DGND (power) "Digital ground", 39 AGND (power) "Analog ground", 41 AGND (power) "Analog ground", 42 AVDD (power) "Analog supply"
part C pins: 14 NC "These terminals must be left unconnected.", 16 NC "These terminals must be left unconnected.", 24 NC "These terminals must be left unconnected.", 25 NC "These terminals must be left unconnected.", 26 NC "These terminals must be left unconnected.", 35 NC "These terminals must be left unconnected."

## ADS1602IPFBT
designator U?
16-Bit, 2.5 MSPS ADC, -40 to 85 degC, 48-pin QFP (PFB48), Green (RoHS & no Sb/Br); Manufacturer: Texas Instruments; PartNumber: ADS1602IPFBT; # Input Channels: 1; Analog Voltage AV/DD(Max)(V): 5.25; Analog Voltage AV/DD(Min)(V): 4.75; Architecture: Delta-Sigma; Digital Supply(Min)(V): 2.7; Interface: Serial SPI; Resolution(Bits): 16; Sample Rate (max)(SPS): 2.5M; SFDR(dB): 120; SINAD(dB): 91; SubFamily: Precision ADC (<=10MSPS); DatasheetVersion: SBAS341E; PackageVersion: 4073176/B, 10/1996; PackageReference: PFB48; PackageDescription: 48-Pin Plastic Flat Pack, Body 7 x 7 mm, Pitch 0.5 mm; Supplier 1: Digi-Key; Supplier Part Number 1: ADS7870EAG4-ND; Digital Supply(Max)(V): 5.25; Eco-Plan: Green (RoHS & no Sb/Br); SNR(dB): 91; Mounting Technology: Surface Mount; Code_JEDEC: MS-026; ComponentLink1Description: Manufacturer URL; ComponentLink1URL: http://www.ti.com/; ComponentLink2Description: Datasheet; ComponentLink2URL: http://www.ti.com/general/docs/lit/getliterature.tsp?genericPartNumber=ADS1602&fileType=pdf; ComponentLink3Description: Package Specification; ComponentLink3URL: http://www.ti.com/lit/ml/mtqf019a/mtqf019a.pdf
footprint TI-PFB48_N (QFP, 48-Leads, Body 7x7mm, Pitch 0.5mm, IPC Medium Density)
footprint TI-PFB48_L (QFP, 48-Leads, Body 7x7mm, Pitch 0.5mm, IPC High Density)
footprint TI-PFB48_M (QFP, 48-Leads, Body 7x7mm, Pitch 0.5mm, IPC Low Density)
part A pins: 4 AINN (in) "Negative analog input", 5 AINP (in) "Positive analog input", 8 RBIAS "Terminal for external analog bias setting resistor.", 13 ~{REFEN} (in) "Internal reference enable. Internal pull-down resistor of 170kohm to DGND.", 15 RPULLUP (in) "Pull-up to DVDD with 10kohm resistor (see Figure 53).", 17 ~{PD} (in) "Power-down all circuitry. Internal pull-up resistor of 170kohm to DGND.", 20 SYNC (in) "Synchronization control input", 21 OTR (out) "Indicates analog input signal is out of range.", 27 ~{SCLK} (out) "Serial clock output, complementary signal.", 28 SCLK (out) "Serial clock output", 29 ~{DOUT} (out) "Data output, complementary signal.", 30 DOUT (out) "Data output", 31 ~{FSO} (out) "Frame synchronization output, complementary signal.", 32 FSO (out) "Frame synchronization output", 40 CLK (in) "Clock input", 43 VCAP "Terminal for external bypass capacitor connection to internal bias voltage.", 44 VREFN (in) "Negative reference voltage", 45 VREFN (in) "Negative reference voltage", 46 VMID (in) "Midpoint voltage", 47 VREFP (in) "Positive reference voltage", 48 VREFP (in) "Positive reference voltage"
part B pins: 1 AGND (power) "Analog ground", 2 AVDD (power) "Analog supply", 3 AGND (power) "Analog ground", 6 AGND (power) "Analog ground", 7 AVDD (power) "Analog supply", 9 AGND (power) "Analog ground", 10 AVDD (power) "Analog supply", 11 AGND (power) "Analog ground", 12 AVDD (power) "Analog supply", 18 DVDD (power) "Digital supply", 19 DGND (power) "Digital ground", 22 DGND (power) "Digital ground", 23 DVDD (power) "Digital supply", 33 DGND (power) "Digital ground", 34 DVDD (power) "Digital supply", 36 DGND (power) "Digital ground", 37 IOVDD (power) "Digital I/O supply", 38 DGND (power) "Digital ground", 39 AGND (power) "Analog ground", 41 AGND (power) "Analog ground", 42 AVDD (power) "Analog supply"
part C pins: 14 NC "These terminals must be left unconnected.", 16 NC "These terminals must be left unconnected.", 24 NC "These terminals must be left unconnected.", 25 NC "These terminals must be left unconnected.", 26 NC "These terminals must be left unconnected.", 35 NC "These terminals must be left unconnected."

## ADS1602IPFBTG4
designator U?
16-Bit, 2.5 MSPS ADC, -40 to 85 degC, 48-pin QFP (PFB48), Green (RoHS & no Sb/Br); Manufacturer: Texas Instruments; PartNumber: ADS1602IPFBTG4; # Input Channels: 1; Analog Voltage AV/DD(Max)(V): 5.25; Analog Voltage AV/DD(Min)(V): 4.75; Architecture: Delta-Sigma; Digital Supply(Min)(V): 2.7; Interface: Serial SPI; Resolution(Bits): 16; Sample Rate (max)(SPS): 2.5M; SFDR(dB): 120; SINAD(dB): 91; SubFamily: Precision ADC (<=10MSPS); DatasheetVersion: SBAS341E; PackageVersion: 4073176/B, 10/1996; PackageReference: PFB48; PackageDescription: 48-Pin Plastic Flat Pack, Body 7 x 7 mm, Pitch 0.5 mm; Supplier 1: Digi-Key; Supplier Part Number 1: ADS825E-ND; Digital Supply(Max)(V): 5.25; Eco-Plan: Green (RoHS & no Sb/Br); SNR(dB): 91; Mounting Technology: Surface Mount; Code_JEDEC: MS-026; ComponentLink1Description: Manufacturer URL; ComponentLink1URL: http://www.ti.com/; ComponentLink2Description: Datasheet; ComponentLink2URL: http://www.ti.com/general/docs/lit/getliterature.tsp?genericPartNumber=ADS1602&fileType=pdf; ComponentLink3Description: Package Specification; ComponentLink3URL: http://www.ti.com/lit/ml/mtqf019a/mtqf019a.pdf
footprint TI-PFB48_N (QFP, 48-Leads, Body 7x7mm, Pitch 0.5mm, IPC Medium Density)
footprint TI-PFB48_L (QFP, 48-Leads, Body 7x7mm, Pitch 0.5mm, IPC High Density)
footprint TI-PFB48_M (QFP, 48-Leads, Body 7x7mm, Pitch 0.5mm, IPC Low Density)
part A pins: 4 AINN (in) "Negative analog input", 5 AINP (in) "Positive analog input", 8 RBIAS "Terminal for external analog bias setting resistor.", 13 ~{REFEN} (in) "Internal reference enable. Internal pull-down resistor of 170kohm to DGND.", 15 RPULLUP (in) "Pull-up to DVDD with 10kohm resistor (see Figure 53).", 17 ~{PD} (in) "Power-down all circuitry. Internal pull-up resistor of 170kohm to DGND.", 20 SYNC (in) "Synchronization control input", 21 OTR (out) "Indicates analog input signal is out of range.", 27 ~{SCLK} (out) "Serial clock output, complementary signal.", 28 SCLK (out) "Serial clock output", 29 ~{DOUT} (out) "Data output, complementary signal.", 30 DOUT (out) "Data output", 31 ~{FSO} (out) "Frame synchronization output, complementary signal.", 32 FSO (out) "Frame synchronization output", 40 CLK (in) "Clock input", 43 VCAP "Terminal for external bypass capacitor connection to internal bias voltage.", 44 VREFN (in) "Negative reference voltage", 45 VREFN (in) "Negative reference voltage", 46 VMID (in) "Midpoint voltage", 47 VREFP (in) "Positive reference voltage", 48 VREFP (in) "Positive reference voltage"
part B pins: 1 AGND (power) "Analog ground", 2 AVDD (power) "Analog supply", 3 AGND (power) "Analog ground", 6 AGND (power) "Analog ground", 7 AVDD (power) "Analog supply", 9 AGND (power) "Analog ground", 10 AVDD (power) "Analog supply", 11 AGND (power) "Analog ground", 12 AVDD (power) "Analog supply", 18 DVDD (power) "Digital supply", 19 DGND (power) "Digital ground", 22 DGND (power) "Digital ground", 23 DVDD (power) "Digital supply", 33 DGND (power) "Digital ground", 34 DVDD (power) "Digital supply", 36 DGND (power) "Digital ground", 37 IOVDD (power) "Digital I/O supply", 38 DGND (power) "Digital ground", 39 AGND (power) "Analog ground", 41 AGND (power) "Analog ground", 42 AVDD (power) "Analog supply"
part C pins: 14 NC "These terminals must be left unconnected.", 16 NC "These terminals must be left unconnected.", 24 NC "These terminals must be left unconnected.", 25 NC "These terminals must be left unconnected.", 26 NC "These terminals must be left unconnected.", 35 NC "These terminals must be left unconnected."

## ADS1605IPAPR
designator U?
16-Bit, 5 MSPS Delta-Sigma, ADC, -40 to 85 degC, 64-pin QFP (PAP64), Green (RoHS & no Sb/Br); Manufacturer: Texas Instruments; PartNumber: ADS1605IPAPR; # Input Channels: 1; Analog Voltage AV/DD(Max)(V): 5.25; Analog Voltage AV/DD(Min)(V): 4.75; Digital Supply(Min)(V): 2.7; Interface: Parallel CMOS; Resolution(Bits): 16; Sample Rate (max)(SPS): 5M; SFDR(dB): 102; SINAD(dB): 84; SubFamily: Precision ADC (<=10MSPS); DatasheetVersion: SBAS274H; PackageVersion: 4147702/C, 08/2003; PackageReference: PAP64-5900X5900TP; PackageDescription: 64-Pin PowerPAD(TM) Plastic Quad Flatpack, Body 10 x 10 mm, Pitch 0.5 mm; Supplier 1: Digi-Key; Supplier Part Number 1: ADS825E/1K-ND; Architecture: Delta-Sigma; Digital Supply(Max)(V): 5.25; Eco-Plan: Green (RoHS & no Sb/Br); SNR(dB): 84; Mounting Technology: Surface Mount; Code_JEDEC: MS-026; ComponentLink1Description: Manufacturer URL; ComponentLink1URL: http://www.ti.com/; ComponentLink2Description: Datasheet; ComponentLink2URL: http://www.ti.com/general/docs/lit/getliterature.tsp?genericPartNumber=ADS1605&fileType=pdf; ComponentLink3Description: Package Specification; ComponentLink3URL: http://www.ti.com/lit/ml/mpqf071b/mpqf071b.pdf
footprint TI-PAP64-5900X5900TP_N (QFP, 64-Leads, Body 10x10mm, Pitch 0.5mm, Thermal Pad 6.5x6.5mm, IPC Medium Density)
footprint TI-PAP64-5900X5900TP_L (QFP, 64-Leads, Body 10x10mm, Pitch 0.5mm, Thermal Pad 6.5x6.5mm, IPC High Density)
footprint TI-PAP64-5900X5900TP_M (QFP, 64-Leads, Body 10x10mm, Pitch 0.5mm, Thermal Pad 6.5x6.5mm, IPC Low Density)
part A pins: 4 AINN (in) "Negative analog input", 5 AINP (in) "Positive analog input", 8 RBIAS (in) "Terminal for external analog bias setting resistor", 13 ~{REFEN} (in) "Internal reference enable. Internal pull-down resistor of 170kohm to DGND.", 15 2XMODE (in) "Digital filter decimation rate. Internal pull-down resistor of 170kohm to DGND.", 17 ~{PD} (in) "Power down all circuitry. Internal pull-up resistor of 170kohm to DGND.", 20 ~{RESET} (in) "Reset digital filter", 21 ~{CS} (in) "Chip select", 22 ~{RD} (in) "Read enable", 23 OTR (out) "Analog inputs out of range", 24 ~{DRDY} (out) "Data ready on falling edge", 29 DOUT 0 (hiz) "Data output. DOUT[15] is the MSB and DOUT[0] is the LSB.", 30 DOUT 1 (hiz) "Data output. DOUT[15] is the MSB and DOUT[0] is the LSB.", 31 DOUT 2 (hiz) "Data output. DOUT[15] is the MSB and DOUT[0] is the LSB.", 32 DOUT 3 (hiz) "Data output. DOUT[15] is the MSB and DOUT[0] is the LSB.", 33 DOUT 4 (hiz) "Data output. DOUT[15] is the MSB and DOUT[0] is the LSB.", 34 DOUT 5 (hiz) "Data output. DOUT[15] is the MSB and DOUT[0] is the LSB.", 35 DOUT 6 (hiz) "Data output. DOUT[15] is the MSB and DOUT[0] is the LSB.", 36 DOUT 7 (hiz) "Data output. DOUT[15] is the MSB and DOUT[0] is the LSB.", 37 DOUT 8 (hiz) "Data output. DOUT[15] is the MSB and DOUT[0] is the LSB.", 38 DOUT 9 (hiz) "Data output. DOUT[15] is the MSB and DOUT[0] is the LSB.", 39 DOUT 10 (hiz) "Data output. DOUT[15] is the MSB and DOUT[0] is the LSB.", 40 DOUT 11 (hiz) "Data output. DOUT[15] is the MSB and DOUT[0] is the LSB.", 41 DOUT 12 (hiz) "Data output. DOUT[15] is the MSB and DOUT[0] is the LSB.", 42 DOUT 13 (hiz) "Data output. DOUT[15] is the MSB and DOUT[0] is the LSB.", 43 DOUT 14 (hiz) "Data output. DOUT[15] is the MSB and DOUT[0] is the LSB.", 44 DOUT 15 (hiz) "Data output. DOUT[15] is the MSB and DOUT[0] is the LSB.", 56 CLK (in) "Clock input", 59 VCAP "Terminal for external bypass capacitor connection to internal bias voltage", 60 VREFN (in) "Negative reference voltage", 61 VREFN (in) "Negative reference voltage", 62 VMID (in) "Midpoint voltage", 63 VREFP (in) "Positive reference voltage", 64 VREFP (in) "Positive reference voltage"
part B pins: 1 AGND (power) "Analog ground", 2 AVDD (power) "Analog supply", 3 AGND (power) "Analog ground", 6 AGND (power) "Analog ground", 7 AVDD (power) "Analog supply", 9 AGND (power) "Analog ground", 10 AVDD (power) "Analog supply", 11 AGND (power) "Analog ground", 12 AVDD (power) "Analog supply", 18 DVDD (power) "Digital supply", 19 DGND (power) "Digital ground", 25 DGND (power) "Digital ground", 26 DVDD (power) "Digital supply", 51 DGND (power) "Digital ground", 52 DVDD (power) "Digital supply", 53 IOVDD (power) "Digital I/O supply", 54 DGND (power) "Digital ground", 55 AGND (power) "Analog ground", 57 AGND (power) "Analog ground", 58 AVDD (power) "Analog supply", 65 EP (power)
part C pins: 14 NC "These terminals are not connected within the ADS1605/6 and must be left unconnected.", 16 NC "These terminals are not connected within the ADS1605/6 and must be left unconnected.", 27 NC "These terminals are not connected within the ADS1605/6 and must be left unconnected.", 28 NC "These terminals are not connected within the ADS1605/6 and must be left unconnected.", 45 NC "These terminals are not connected within the ADS1605/6 and must be left unconnected.", 46 NC "These terminals must be left disconnected on the ADS1605.", 47 NC "These terminals must be left disconnected on the ADS1605.", 48 NC "These terminals must be left disconnected on the ADS1605.", 50 NC "These terminals are not connected within the ADS1605/6 and must be left unconnected."

## ADS1605IPAPRG4
designator U?
16-Bit, 5 MSPS Delta-Sigma, ADC, -40 to 85 degC, 64-pin QFP (PAP64), Green (RoHS & no Sb/Br); Manufacturer: Texas Instruments; PartNumber: ADS1605IPAPRG4; # Input Channels: 1; Analog Voltage AV/DD(Max)(V): 5.25; Analog Voltage AV/DD(Min)(V): 4.75; Digital Supply(Min)(V): 2.7; Interface: Parallel CMOS; Resolution(Bits): 16; Sample Rate (max)(SPS): 5M; SFDR(dB): 102; SINAD(dB): 84; SubFamily: Precision ADC (<=10MSPS); DatasheetVersion: SBAS274H; PackageVersion: 4147702/C, 08/2003; PackageReference: PAP64-5900X5900TP; PackageDescription: 64-Pin PowerPAD(TM) Plastic Quad Flatpack, Body 10 x 10 mm, Pitch 0.5 mm; Supplier 1: Digi-Key; Supplier Part Number 1: ADS825E/1KG4-ND; Architecture: Delta-Sigma; Digital Supply(Max)(V): 5.25; Eco-Plan: Green (RoHS & no Sb/Br); SNR(dB): 84; Mounting Technology: Surface Mount; Code_JEDEC: MS-026; ComponentLink1Description: Manufacturer URL; ComponentLink1URL: http://www.ti.com/; ComponentLink2Description: Datasheet; ComponentLink2URL: http://www.ti.com/general/docs/lit/getliterature.tsp?genericPartNumber=ADS1605&fileType=pdf; ComponentLink3Description: Package Specification; ComponentLink3URL: http://www.ti.com/lit/ml/mpqf071b/mpqf071b.pdf
footprint TI-PAP64-5900X5900TP_N (QFP, 64-Leads, Body 10x10mm, Pitch 0.5mm, Thermal Pad 6.5x6.5mm, IPC Medium Density)
footprint TI-PAP64-5900X5900TP_L (QFP, 64-Leads, Body 10x10mm, Pitch 0.5mm, Thermal Pad 6.5x6.5mm, IPC High Density)
footprint TI-PAP64-5900X5900TP_M (QFP, 64-Leads, Body 10x10mm, Pitch 0.5mm, Thermal Pad 6.5x6.5mm, IPC Low Density)
part A pins: 4 AINN (in) "Negative analog input", 5 AINP (in) "Positive analog input", 8 RBIAS (in) "Terminal for external analog bias setting resistor", 13 ~{REFEN} (in) "Internal reference enable. Internal pull-down resistor of 170kohm to DGND.", 15 2XMODE (in) "Digital filter decimation rate. Internal pull-down resistor of 170kohm to DGND.", 17 ~{PD} (in) "Power down all circuitry. Internal pull-up resistor of 170kohm to DGND.", 20 ~{RESET} (in) "Reset digital filter", 21 ~{CS} (in) "Chip select", 22 ~{RD} (in) "Read enable", 23 OTR (out) "Analog inputs out of range", 24 ~{DRDY} (out) "Data ready on falling edge", 29 DOUT 0 (hiz) "Data output. DOUT[15] is the MSB and DOUT[0] is the LSB.", 30 DOUT 1 (hiz) "Data output. DOUT[15] is the MSB and DOUT[0] is the LSB.", 31 DOUT 2 (hiz) "Data output. DOUT[15] is the MSB and DOUT[0] is the LSB.", 32 DOUT 3 (hiz) "Data output. DOUT[15] is the MSB and DOUT[0] is the LSB.", 33 DOUT 4 (hiz) "Data output. DOUT[15] is the MSB and DOUT[0] is the LSB.", 34 DOUT 5 (hiz) "Data output. DOUT[15] is the MSB and DOUT[0] is the LSB.", 35 DOUT 6 (hiz) "Data output. DOUT[15] is the MSB and DOUT[0] is the LSB.", 36 DOUT 7 (hiz) "Data output. DOUT[15] is the MSB and DOUT[0] is the LSB.", 37 DOUT 8 (hiz) "Data output. DOUT[15] is the MSB and DOUT[0] is the LSB.", 38 DOUT 9 (hiz) "Data output. DOUT[15] is the MSB and DOUT[0] is the LSB.", 39 DOUT 10 (hiz) "Data output. DOUT[15] is the MSB and DOUT[0] is the LSB.", 40 DOUT 11 (hiz) "Data output. DOUT[15] is the MSB and DOUT[0] is the LSB.", 41 DOUT 12 (hiz) "Data output. DOUT[15] is the MSB and DOUT[0] is the LSB.", 42 DOUT 13 (hiz) "Data output. DOUT[15] is the MSB and DOUT[0] is the LSB.", 43 DOUT 14 (hiz) "Data output. DOUT[15] is the MSB and DOUT[0] is the LSB.", 44 DOUT 15 (hiz) "Data output. DOUT[15] is the MSB and DOUT[0] is the LSB.", 56 CLK (in) "Clock input", 59 VCAP "Terminal for external bypass capacitor connection to internal bias voltage", 60 VREFN (in) "Negative reference voltage", 61 VREFN (in) "Negative reference voltage", 62 VMID (in) "Midpoint voltage", 63 VREFP (in) "Positive reference voltage", 64 VREFP (in) "Positive reference voltage"
part B pins: 1 AGND (power) "Analog ground", 2 AVDD (power) "Analog supply", 3 AGND (power) "Analog ground", 6 AGND (power) "Analog ground", 7 AVDD (power) "Analog supply", 9 AGND (power) "Analog ground", 10 AVDD (power) "Analog supply", 11 AGND (power) "Analog ground", 12 AVDD (power) "Analog supply", 18 DVDD (power) "Digital supply", 19 DGND (power) "Digital ground", 25 DGND (power) "Digital ground", 26 DVDD (power) "Digital supply", 51 DGND (power) "Digital ground", 52 DVDD (power) "Digital supply", 53 IOVDD (power) "Digital I/O supply", 54 DGND (power) "Digital ground", 55 AGND (power) "Analog ground", 57 AGND (power) "Analog ground", 58 AVDD (power) "Analog supply", 65 EP (power)
part C pins: 14 NC "These terminals are not connected within the ADS1605/6 and must be left unconnected.", 16 NC "These terminals are not connected within the ADS1605/6 and must be left unconnected.", 27 NC "These terminals are not connected within the ADS1605/6 and must be left unconnected.", 28 NC "These terminals are not connected within the ADS1605/6 and must be left unconnected.", 45 NC "These terminals are not connected within the ADS1605/6 and must be left unconnected.", 46 NC "These terminals must be left disconnected on the ADS1605.", 47 NC "These terminals must be left disconnected on the ADS1605.", 48 NC "These terminals must be left disconnected on the ADS1605.", 50 NC "These terminals are not connected within the ADS1605/6 and must be left unconnected."